# EAGLE library part CON-22-16-2070 (library diode-20CJQ030)
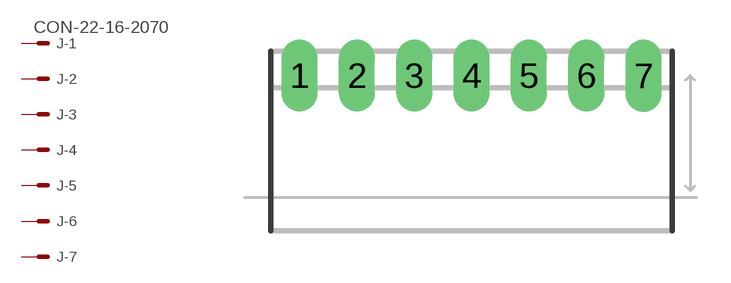
[diagram p95: symbol with the pads of 4455-7; footprint 4455-7]

Designator prefix J; gates -1=MV -2=M -3=M -4=M -5=M -6=M -7=M

## CON-22-16-2070  [4455-7]
1  -1:S  pas
2  -2:S  pas
3  -3:S  pas
4  -4:S  pas
5  -5:S  pas
6  -6:S  pas
7  -7:S  pas

## Footprint 4455-7 (pad centres in mm)
.100" (2.54mm) Center Header - 7 Pin
drill 1.07 long: 1 -7.62,2.4; 2 -5.08,2.4; 3 -2.54,2.4; 4 0,2.4; 5 2.54,2.4; 6 5.08,2.4; 7 7.62,2.39